# Altium schematic symbol library Connectors.SchLib: 39 symbols (part 2 of 2)
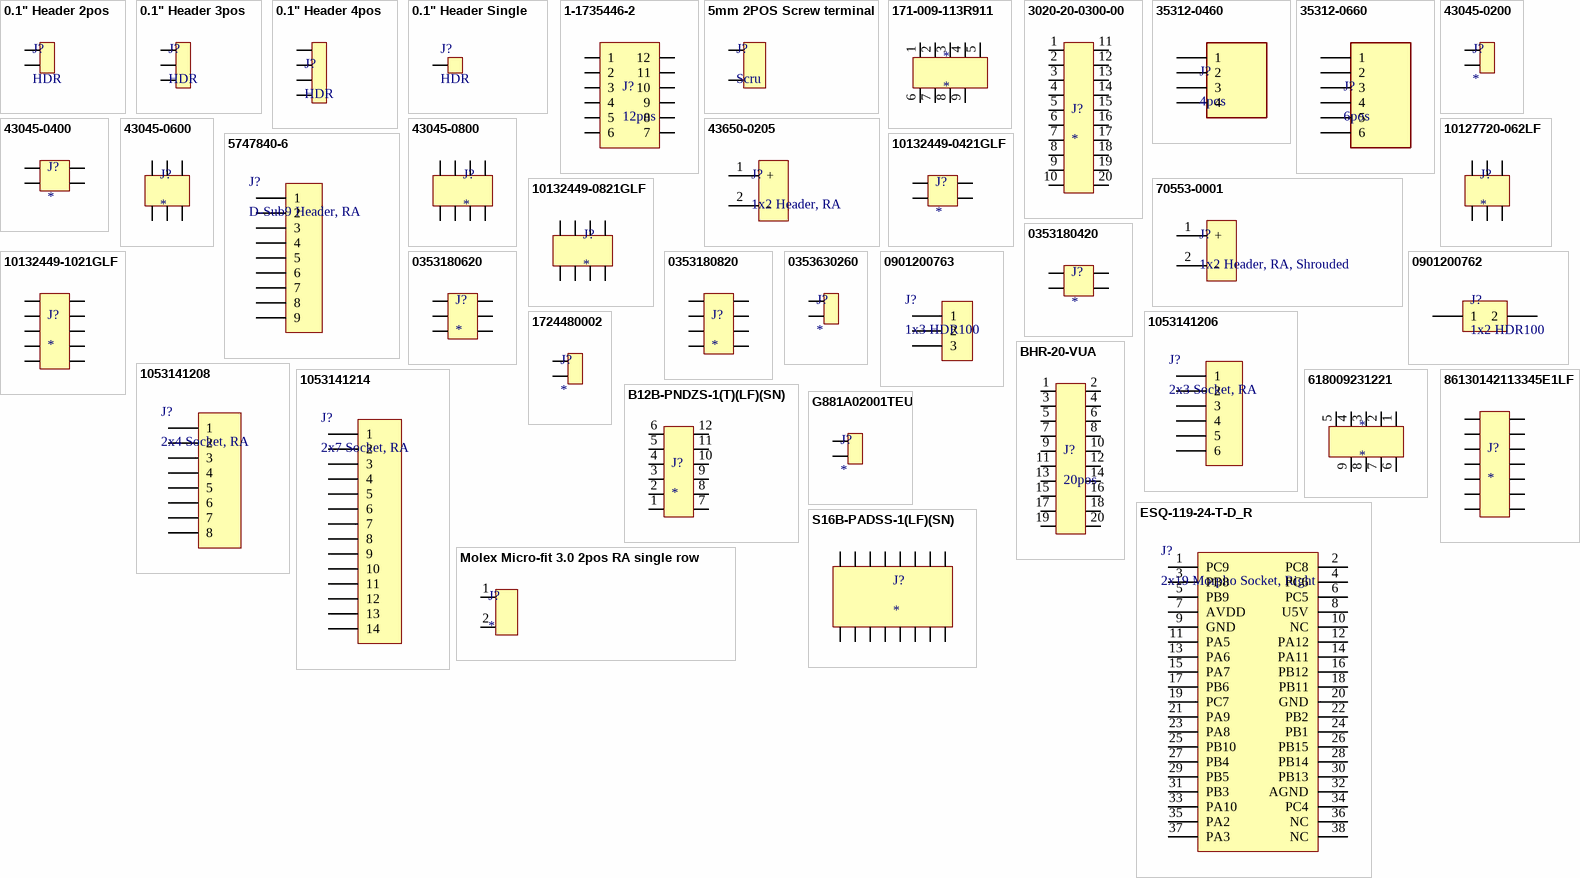
[diagram p1: symbols 0.1" Header 2pos to S16B-PADSS-1(LF)(SN)]

## S16B-PADSS-1(LF)(SN)
designator J?
JST (JAPAN SOLDERLESS TERMINALS) - S16B-PADSS-1(LF)(SN) - Wire-To-Board Connector, 2 mm, 16 Contacts, Header, PAD Series, Through Hole, 2 Rows; Gender: Male; Connector Type: Male Pin; Number of Positions: 16; Pitch: 0.079inch; Supplier 1: Digi-Key; Supplier Part Number 1: 455-2037-ND; Manufacturer: JST; Manufacturer Part Number: S16B-PADSS-1(LF)(SN); RoHS: Yes; Category: Connectors; Stock 1: 2836; Mount: Through Hole; Color: Natural; Contact Material: Copper; Contact Plating: Tin; Termination: Solder; Number of Contacts: 16; Number of Rows: 2; Fastening Type: Ramp; Packaging: Bulk; Row Spacing: 0.079inch; Lead Free: Lead Free; REACH SVHC: Unknown; ComponentLink1URL: https://datasheet.ciiva.com/726/epad-726149.pdf?src-supplier=Digi-Key; ComponentLink1Description: https://datasheet.ciiva.com/726/epad-726149.pdf?src-supplier=Digi-Key; ComponentLink2URL: https://datasheet.ciiva.com/46409/1794417-46409340.pdf?src-supplier=Element14; ComponentLink2Description: https://datasheet.ciiva.com/46409/1794417-46409340.pdf?src-supplier=Element14
footprint S16B-PADSS-1(LF)(SN)
pins: 1, 2, 3, 4, 5, 6, 7, 8, 9, 10, 11, 12, 13, 14, 15, 16